# Altium footprint library VFQFPN-68(8.0X8.0).PcbLib: 1 footprints
Each footprint in its own frame and in the unit in brackets; x right, y up, seen from the top. Pads: shape width x height; smd on the part's side, far side on the other; paste and mask are expansions set on the pad; w line width, h text height; cw(c..) or ccw(c..) is an arc to the next point about the centre after c.
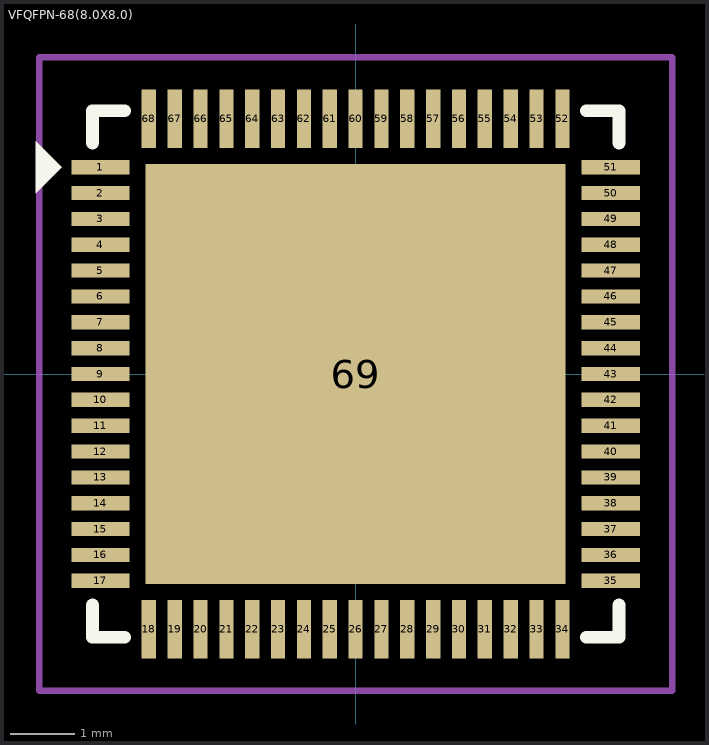
[diagram p0: the footprint, top view; thin cyan lines are the x and y axes]

## VFQFPN-68(8.0X8.0) [mm]
pads (69):
  rect 0.9x0.22 smd: 1(-3.95,3.2) 2(-3.95,2.8) 3(-3.95,2.4) 4(-3.95,2) 5(-3.95,1.6) 6(-3.95,1.2) 7(-3.95,0.8) 8(-3.95,0.4) 9(-3.95,0) 10(-3.95,-0.4) 11(-3.95,-0.8) 12(-3.95,-1.2) 13(-3.95,-1.6) 14(-3.95,-2) 15(-3.95,-2.4) 16(-3.95,-2.8) 17(-3.95,-3.2) 35(3.95,-3.2) 36(3.95,-2.8) 37(3.95,-2.4) 38(3.95,-2) 39(3.95,-1.6) 40(3.95,-1.2) 41(3.95,-0.8) 42(3.95,-0.4) 43(3.95,0) 44(3.95,0.4) 45(3.95,0.8) 46(3.95,1.2) 47(3.95,1.6) 48(3.95,2) 49(3.95,2.4) 50(3.95,2.8) 51(3.95,3.2)
  rect 0.22x0.9 smd: 18(-3.2,-3.95) 19(-2.8,-3.95) 20(-2.4,-3.95) 21(-2,-3.95) 22(-1.6,-3.95) 23(-1.2,-3.95) 24(-0.8,-3.95) 25(-0.4,-3.95) 26(0,-3.95) 27(0.4,-3.95) 28(0.8,-3.95) 29(1.2,-3.95) 30(1.6,-3.95) 31(2,-3.95) 32(2.4,-3.95) 33(2.8,-3.95) 34(3.2,-3.95) 52(3.2,3.95) 53(2.8,3.95) 54(2.4,3.95) 55(2,3.95) 56(1.6,3.95) 57(1.2,3.95) 58(0.8,3.95) 59(0.4,3.95) 60(0,3.95) 61(-0.4,3.95) 62(-0.8,3.95) 63(-1.2,3.95) 64(-1.6,3.95) 65(-2,3.95) 66(-2.4,3.95) 67(-2.8,3.95) 68(-3.2,3.95)
  rect 6.5x6.5 smd paste-4: 69(0,0)
Top Overlay:
  region: -4.95,2.8 -4.95,3.6 -4.55,3.2
  lines w0.2: -4.075,-3.575 -4.075,-4.075 -3.575,-4.075 ; -4.075,3.575 -4.075,4.075 -3.575,4.075 ; 3.575,-4.075 4.075,-4.075 4.075,-3.575 ; 3.575,4.075 4.075,4.075 4.075,3.575
Top Paste:
  region: -2.051,3.151 -3.151,3.151 -3.151,2.051 -2.051,2.051
  region: -2.051,1.851 -3.151,1.851 -3.151,0.75 -2.051,0.75
  region: -2.051,0.55 -3.151,0.55 -3.151,-0.55 -2.051,-0.55
  region: -2.051,-0.75 -3.151,-0.75 -3.151,-1.851 -2.051,-1.851
  region: -2.051,-2.051 -3.151,-2.051 -3.151,-3.151 -2.051,-3.151
  region: -0.75,3.151 -1.851,3.151 -1.851,2.051 -0.75,2.051
  region: -0.75,1.851 -1.851,1.851 -1.851,0.75 -0.75,0.75
  region: -0.75,0.55 -1.851,0.55 -1.851,-0.55 -0.75,-0.55
  region: -0.75,-0.75 -1.851,-0.75 -1.851,-1.851 -0.75,-1.851
  region: -0.75,-2.051 -1.851,-2.051 -1.851,-3.151 -0.75,-3.151
  region: 0.55,3.151 -0.55,3.151 -0.55,2.051 0.55,2.051
  region: 0.55,1.851 -0.55,1.851 -0.55,0.75 0.55,0.75
  region: 0.55,0.55 -0.55,0.55 -0.55,-0.55 0.55,-0.55
  region: 0.55,-0.75 -0.55,-0.75 -0.55,-1.851 0.55,-1.851
  region: 0.55,-2.051 -0.55,-2.051 -0.55,-3.151 0.55,-3.151
  region: 1.851,3.151 0.75,3.151 0.75,2.051 1.851,2.051
  region: 1.851,1.851 0.75,1.851 0.75,0.75 1.851,0.75
  region: 1.851,0.55 0.75,0.55 0.75,-0.55 1.851,-0.55
  region: 1.851,-0.75 0.75,-0.75 0.75,-1.851 1.851,-1.851
  region: 1.851,-2.051 0.75,-2.051 0.75,-3.151 1.851,-3.151
  region: 3.151,3.151 2.051,3.151 2.051,2.051 3.151,2.051
  region: 3.151,1.851 2.051,1.851 2.051,0.75 3.151,0.75
  region: 3.151,0.55 2.051,0.55 2.051,-0.55 3.151,-0.55
  region: 3.151,-0.75 2.051,-0.75 2.051,-1.851 3.151,-1.851
  region: 3.151,-2.051 2.051,-2.051 2.051,-3.151 3.151,-3.151
Top Courtyard:
  lines w0.1: -4.9,-4.9 4.9,-4.9 4.9,4.9 -4.9,4.9 -4.9,-4.9
3D body "VFQFPN_25RGV3_STM.step": height 0.99, standoff 0, extent -4.077,-4.077 4.077,4.077